# Altium footprint library Miscellaneous Devices.PcbLib: 152 footprints (part 8 of 10)
Each footprint in its own frame and in the unit in brackets; x right, y up, seen from the top. Pads: shape width x height; smd on the part's side, far side on the other; paste and mask are expansions set on the pad; w line width, h text height; cw(c..) or ccw(c..) is an arc to the next point about the centre after c.
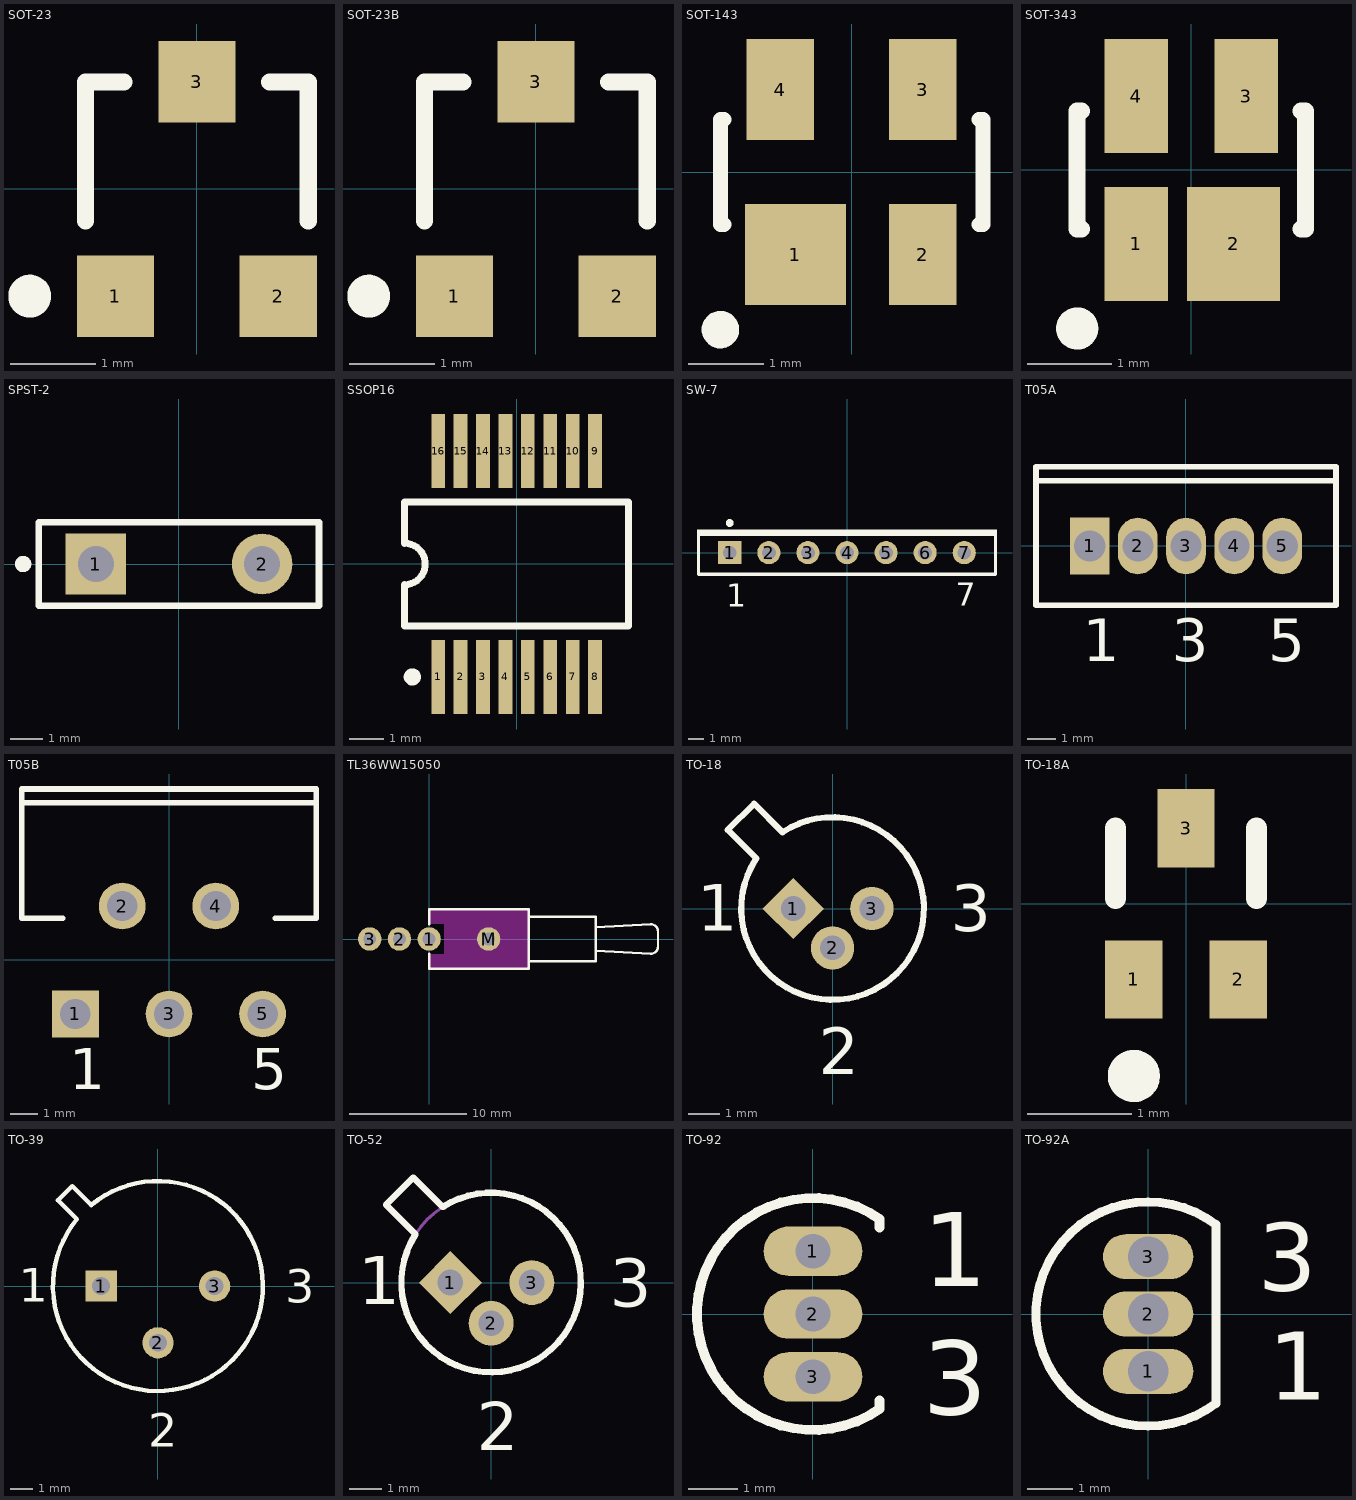
[diagram p7: the footprints below, top view; thin cyan lines are the x and y axes]

## SOT-23 [mm] "SOT-23; 3 Leads; Body 3.0 x 2.6 mm, inc. leads (LxW max)"
height 1.1
pads (3):
  rect 0.9x0.95 smd: 1(-0.95,-1.25) 2(0.95,-1.25) 3(0,1.25)
Top Overlay:
  circle w0.25: c-1.95,-1.25 r0.125
  lines w0.2: -1.3,-0.375 -1.3,1.25 -0.85,1.25 ; 0.85,1.25 1.3,1.25 1.3,-0.375

## SOT-23B [mm] "SOT-23; 3 Leads; Body 3.0 x 2.6 mm, inc. leads (LxW max)"
height 1.1
pads (3):
  rect 0.9x0.95 smd: 1(-0.95,-1.25) 2(0.95,-1.25) 3(0,1.25)
Top Overlay:
  circle w0.25: c-1.95,-1.25 r0.125
  lines w0.2: -1.3,-0.375 -1.3,1.25 -0.85,1.25 ; 0.85,1.25 1.3,1.25 1.3,-0.375

## SOT-143 [mm] "SOT-143; 4 Leads; Body 3 x 2.6 mm, inc. leads (LxW max)"
height 1.2
pads (4):
  rect 1.35x1.35 smd: 1(-0.75,-1.1)
  rect 0.9x1.35 smd: 2(0.95,-1.1) 3(0.95,1.1) 4(-0.95,1.1)
Top Overlay:
  circle w0.25: c-1.75,-2.1 r0.125
  lines w0.2: -1.7,-0.7 -1.75,-0.7 -1.75,0.7 -1.7,0.7 ; 1.7,-0.7 1.75,-0.7 1.75,0.7 1.7,0.7

## SOT-343 [mm] "SOT-343; 4 Leads; Body 2.2 x 2.2 mm, inc. leads (LxW max)"
height 1
pads (4):
  rect 0.75x1.35 smd: 1(-0.65,-0.875) 3(0.65,0.875) 4(-0.65,0.875)
  rect 1.1x1.35 smd: 2(0.5,-0.875)
Top Overlay:
  circle w0.25: c-1.35,-1.875 r0.125
  lines w0.2: -1.3,-0.7 -1.35,-0.7 -1.35,0.7 -1.3,0.7 ; 1.3,-0.7 1.35,-0.7 1.35,0.7 1.3,0.7

## SPST-2 [mm] "Circuit Breaker; 2 Leads"
pads (2):
  rect 1.85x1.85 hole 1.1: 1(-2.54,0)
  round 1.85 hole 1.1: 2(2.54,0)
Top Overlay:
  circle w0.25: c-4.761,-0.001 r0.125
  lines w0.2: -4.28,-1.27 -4.28,1.27 4.28,1.27 4.28,-1.27 -4.28,-1.27

## SSOP16 [mm] "SSOP; 16 Leads; Body Width 5.3 mm; Pitch 0.65 mm"
height 2
pads (16):
  rect 0.4x2.15 smd: 1(-2.275,-3.275) 2(-1.625,-3.275) 3(-0.975,-3.275) 4(-0.325,-3.275) 5(0.325,-3.275) 6(0.975,-3.275) 7(1.625,-3.275) 8(2.275,-3.275) 9(2.275,3.275) 10(1.625,3.275) 11(0.975,3.275) 12(0.325,3.275) 13(-0.325,3.275) 14(-0.975,3.275) 15(-1.625,3.275) 16(-2.275,3.275)
Top Overlay:
  circle w0.25: c-3.025,-3.275 r0.125
  lines w0.2: -3.25,-1.8 3.25,-1.8 3.25,1.8 -3.25,1.8 -3.25,0.6 cw(c-3.25,0) -3.25,-0.6 -3.25,-1.8

## SW-7 [mm] "6 Way Switch; 7 Leads"
pads (7):
  rect 1.5x1.5 hole 0.9: 1(-7.62,0)
  round 1.5 hole 0.9: 2(-5.08,0) 3(-2.54,0) 4(0,0) 5(2.54,0) 6(5.08,0) 7(7.62,0)
Top Overlay:
  circle w0.25: c-7.625,1.929 r0.125
  rectangle: -9.75,1.1 9.75,1.5
  lines w0.2: -9.65,1.4 -9.65,-1.4 9.65,-1.4 9.65,1.4
  text "1" at -7.851,-3.526 h1.5
  text "7" at 7.084,-3.445 h1.5

## T05A [mm] "TO, Thru-Hole, Vertical, Heatsink Mounted; 5 In-Line Leads; Pitch 1.70 mm"
height 15.9
pads (5):
  rect 1.4x2 hole 1.1: 1(-3.4,0)
  oval 1.4x2 hole 1.1: 2(-1.7,0) 3(0,0) 4(1.7,0) 5(3.4,0)
Top Overlay:
  lines w0.2: -5.3,2.3 5.3,2.3 ; -5.3,-2.1 -5.3,2.8 5.3,2.8 5.3,-2.1 -5.3,-2.1
  text "5" at 2.9,-4.075 h1.5
  text "3" at -0.5,-4.075 h1.5
  text "1" at -3.65,-4.075 h1.5

## T05B [mm] "TO, Thru-Hole, Vertical, Heatsink Mounted; 5 Bent Staggered Leads; Pitch 1.7 mm"
height 21.1
pads (5):
  rect 1.7x1.7 hole 1.1: 1(-3.4,-1.96)
  round 1.7 hole 1.1: 2(-1.7,1.96) 3(0,-1.96) 4(1.7,1.96) 5(3.4,-1.96)
Top Overlay:
  lines w0.2: -5.35,5.71 5.35,5.71 ; -3.854,1.51 -5.35,1.51 -5.35,6.21 5.35,6.21 5.35,1.51 3.854,1.51
  text "5" at 2.98,-4.685 h1.5
  text "1" at -3.62,-4.685 h1.5

## TL36WW15050 [mm] "SPDT Subminiature Toggle Switch, Right Angle Mounting, Vertical Actuation"
pads (4):
  round 2 hole 1.1: 1(0,0) 2(-2.54,0) 3(-5.08,0) M(5.08,0)
Top Layer keep-out:
  region: 1.27,2.54 1.27,-2.54 8.509,-2.54 8.509,2.54
  region: 0,2.54 0,1.27 1.27,1.27 1.27,2.54
  region: 0,-1.27 0,-2.54 1.27,-2.54 1.27,-1.27
Top Overlay:
  lines w0.2: 0,-1.27 0,-2.54 8.509,-2.54 8.509,2.54 0,2.54 0,1.27 ; 8.509,-1.905 14.224,-1.905 14.224,1.905 8.509,1.905 ; 14.224,-1.016 18.923,-1.27 ccw(c18.923,-0.635) 19.558,-0.635 19.558,0.635 ccw(c18.923,0.635) 18.923,1.27 14.224,1.016

## TO-18 [mm] "Can; 3 Leads; Pin Circle Dia. 2.54 mm; Lead Dia. 0.48 mm (max)"
height 5.33
pads (3):
  rect 1.4x1.4 hole 0.8 rot 45: 1(-1.27,0)
  round 1.4 hole 0.8: 2(0,-1.27) 3(1.27,0)
Top Overlay:
  lines w0.2: -3.386,2.537 -2.467,1.618 ccw(c0,0) -1.618,2.467 -2.537,3.386 -3.386,2.537
  text "3" at 3.812,-0.742 h1.5
  text "2" at -0.443,-5.355 h1.5
  text "1" at -4.38,-0.719 h1.5

## TO-18A [mm] "SC-89; 3 Flat Leads; Body 1.6 x 1.6 x 0.7 mm, inc leads (LxWxH typ)"
height 0.8
pads (3):
  rect 0.55x0.75 smd: 1(-0.5,-0.725) 2(0.5,-0.725) 3(0,0.725)
Top Overlay:
  circle w0.25: c-0.5,-1.65 r0.125
  lines w0.2: -0.676,0.05 -0.676,0.725 ; 0.675,0.05 0.675,0.725

## TO-39 [mm] "Can; 3 Leads; Pin Circle Dia. 5.08 mm; Lead Dia. 0.48 mm (max)"
height 4.55
pads (3):
  rect 1.4x1.4 hole 0.8: 1(-2.54,0)
  round 1.4 hole 0.8: 2(0,-2.54) 3(2.54,0)
Top Overlay:
  lines w0.2: -4.475,3.838 -3.838,4.475 -2.99,3.626 cw(c0,0) -3.626,2.99 -4.475,3.838
  text "3" at 5.712,-0.751 h1.5
  text "2" at -0.433,-7.203 h1.5
  text "1" at -6.219,-0.697 h1.5

## TO-52 [mm] "Can; 3 Leads; Pin Circle Dia. 2.54 mm"
height 2.67
pads (3):
  rect 1.4x1.4 hole 0.8 rot 45: 1(-1.27,0)
  round 1.4 hole 0.8: 2(0,-1.27) 3(1.27,0)
Top Overlay:
  lines w0.2: -3.277,2.429 -2.358,1.51 ccw(c0,0) -1.51,2.358 -2.429,3.277 -3.277,2.429
  text "3" at 3.706,-0.751 h1.5
  text "2" at -0.442,-5.239 h1.5
  text "1" at -4.153,-0.68 h1.5
Mechanical 1:
  circle w0.1: c0,0 r2.8

## TO-92 [mm] "TO, Flat Index; 3 In-Line, Axial Leads; Body Dia. 4.6mm; Leads 0.41 x 0.39 mm (max)"
height 4.7
pads (3):
  oval 2x1 hole 0.7: 1(0,1.27) 2(0,0) 3(0,-1.27)
Top Overlay:
  lines w0.2: 1.35,-1.75 1.35,-1.92 cw(c0,0) 1.35,1.92 1.35,1.75
  text "1" at 2.224,0.56 h1.5
  text "3" at 2.224,-2.035 h1.5

## TO-92A [mm] "TO, Flat Index; 3 In-Line, Axial Leads; Body Dia. 4.5mm; Leads 0.51 x 0.48 mm (max)"
height 6.86
pads (3):
  oval 2x1 hole 0.9: 1(0,-1.27) 2(0,0) 3(0,1.27)
Top Overlay:
  lines w0.2: 1.5,-1.98 cw(c0,0) 1.5,1.98 1.5,-1.98
  text "3" at 2.43,0.51 h1.5
  text "1" at 2.66,-1.9 h1.5